# EAGLE library part SKYA21001 (library SLJ_wireless)
RF Switch IC Bluetooth, WLAN SPDT 3GHz 50 Ohm SC-70-6
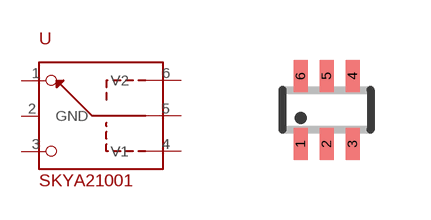
[diagram p1: symbol with the pads of SC70-6L; footprint SC70-6L]

Designator prefix U

## SKYA21001 (MANUFACTURER: Skyworks Solutions; PART_NUMBER: SKYA21001)  [SC70-6L]
1  J3
2  GND  pwr
3  J2
4  V1
5  J1
6  V2

## Footprint SC70-6L (pad centres in mm)
SC-70 Package
smd 0.35 x 0.8: 1 -0.65,-0.85; 2 0,-0.85; 3 0.65,-0.85; 4 0.65,0.85; 5 0,0.85; 6 -0.65,0.85